# Altium schematic symbol library Converters.SchLib: 1 symbol
Pins are listed as number, name and electrical type; pins without a type are passive.

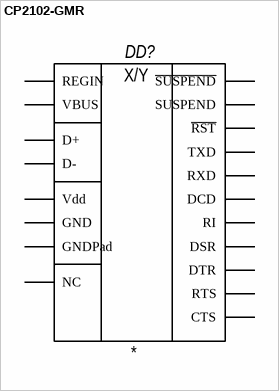
[diagram p0: symbol CP2102-GMR]

## CP2102-GMR
designator DD?
pins: 1 DCD, 2 RI, 3 GND, 4 D+, 5 D-, 6 Vdd, 7 REGIN, 8 VBUS, 9 ~{RST}, 10, 13, 14, 15, 16, 17, 18, 19, 20, 21, 22 NC, 11 ~{SUSPEND}, 12 SUSPEND, 23 CTS, 24 RTS, 25 RXD, 26 TXD, 27 DSR, 28 DTR, 29 GNDPad
text: X/Y